# Altium schematic symbol library GENERIC_R.Schlib: 1 symbol
Pins are listed as number, name and electrical type; pins without a type are passive.

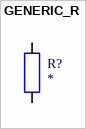
[diagram p0: symbol GENERIC_R]

## GENERIC_R
designator R?
pins: 1, 2